# EAGLE library part 32MUX (library TIcustom)
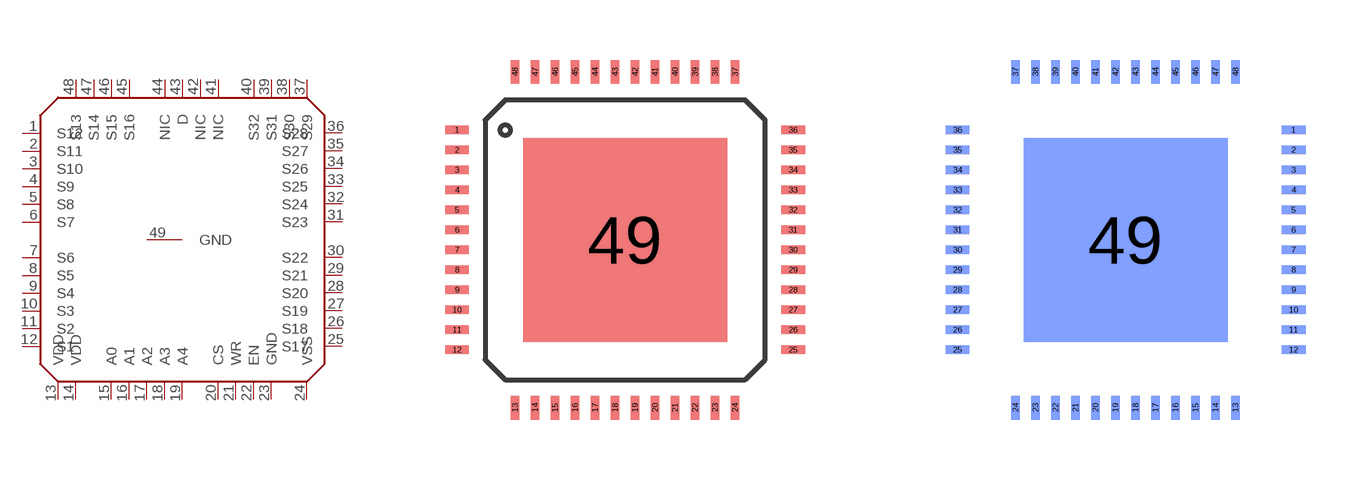
[diagram p4: symbol with the pads of 32MUX; footprints 32MUX, 32MUX_BOT]

Designator prefix -

## 32MUXTOP  [32MUX]
1  S12
2  S11
3  S10
4  S9
5  S8
6  S7
7  S6
8  S5
9  S4
10  S3
11  S2
12  S1
13  VDD
14  VDD
15  A0
16  A1
17  A2
18  A3
19  A4
20  CS
21  WR
22  EN
23  GND
24  VSS
25  S17
26  S18
27  S19
28  S20
29  S21
30  S22
31  S23
32  S24
33  S25
34  S26
35  S27
36  S28
37  S29
38  S30
39  S31
40  S32
41  NIC
42  NIC
43  D
44  NIC
45  S16
46  S15
47  S14
48  S13
49  GND

## 32MUXBOT  [32MUX_BOT]
Pads as for 32MUX

## Footprint 32MUX (pad centres in mm)
smd 0.6 x 0.22: 1 -4.2,2.75; 2 -4.2,2.25; 3 -4.2,1.75; 4 -4.2,1.25; 5 -4.2,0.75; 6 -4.2,0.25; 7 -4.2,-0.25; 8 -4.2,-0.75; 9 -4.2,-1.25; 10 -4.2,-1.75; 11 -4.2,-2.25; 12 -4.2,-2.75; 25 4.2,-2.75; 26 4.2,-2.25; 27 4.2,-1.75; 28 4.2,-1.25; 29 4.2,-0.75; 30 4.2,-0.25; 31 4.2,0.25; 32 4.2,0.75; 33 4.2,1.25; 34 4.2,1.75; 35 4.2,2.25; 36 4.2,2.75
smd 0.22 x 0.6: 13 -2.75,-4.2; 14 -2.25,-4.2; 15 -1.75,-4.2; 16 -1.25,-4.2; 17 -0.75,-4.2; 18 -0.25,-4.2; 19 0.25,-4.2; 20 0.75,-4.2; 21 1.25,-4.2; 22 1.75,-4.2; 23 2.25,-4.2; 24 2.75,-4.2; 37 2.75,4.2; 38 2.25,4.2; 39 1.75,4.2; 40 1.25,4.2; 41 0.75,4.2; 42 0.25,4.2; 43 -0.25,4.2; 44 -0.75,4.2; 45 -1.25,4.2; 46 -1.75,4.2; 47 -2.25,4.2; 48 -2.75,4.2
smd 5.1 x 5.1: 49 0,0

## Footprint 32MUX_BOT (pad centres in mm)
smd 0.6 x 0.22 bottom: 1 4.2,2.75; 2 4.2,2.25; 3 4.2,1.75; 4 4.2,1.25; 5 4.2,0.75; 6 4.2,0.25; 7 4.2,-0.25; 8 4.2,-0.75; 9 4.2,-1.25; 10 4.2,-1.75; 11 4.2,-2.25; 12 4.2,-2.75; 25 -4.2,-2.75; 26 -4.2,-2.25; 27 -4.2,-1.75; 28 -4.2,-1.25; 29 -4.2,-0.75; 30 -4.2,-0.25; 31 -4.2,0.25; 32 -4.2,0.75; 33 -4.2,1.25; 34 -4.2,1.75; 35 -4.2,2.25; 36 -4.2,2.75
smd 0.22 x 0.6 bottom: 13 2.75,-4.2; 14 2.25,-4.2; 15 1.75,-4.2; 16 1.25,-4.2; 17 0.75,-4.2; 18 0.25,-4.2; 19 -0.25,-4.2; 20 -0.75,-4.2; 21 -1.25,-4.2; 22 -1.75,-4.2; 23 -2.25,-4.2; 24 -2.75,-4.2; 37 -2.75,4.2; 38 -2.25,4.2; 39 -1.75,4.2; 40 -1.25,4.2; 41 -0.75,4.2; 42 -0.25,4.2; 43 0.25,4.2; 44 0.75,4.2; 45 1.25,4.2; 46 1.75,4.2; 47 2.25,4.2; 48 2.75,4.2
smd 5.1 x 5.1 bottom: 49 0,0